# Altium footprint library Telma_SimBox_T0_00.PcbLib: 26 footprints (part 2 of 2)
Each footprint in its own frame and in the unit in brackets; x right, y up, seen from the top. Pads: shape width x height; smd on the part's side, far side on the other; paste and mask are expansions set on the pad; w line width, h text height; cw(c..) or ccw(c..) is an arc to the next point about the centre after c.
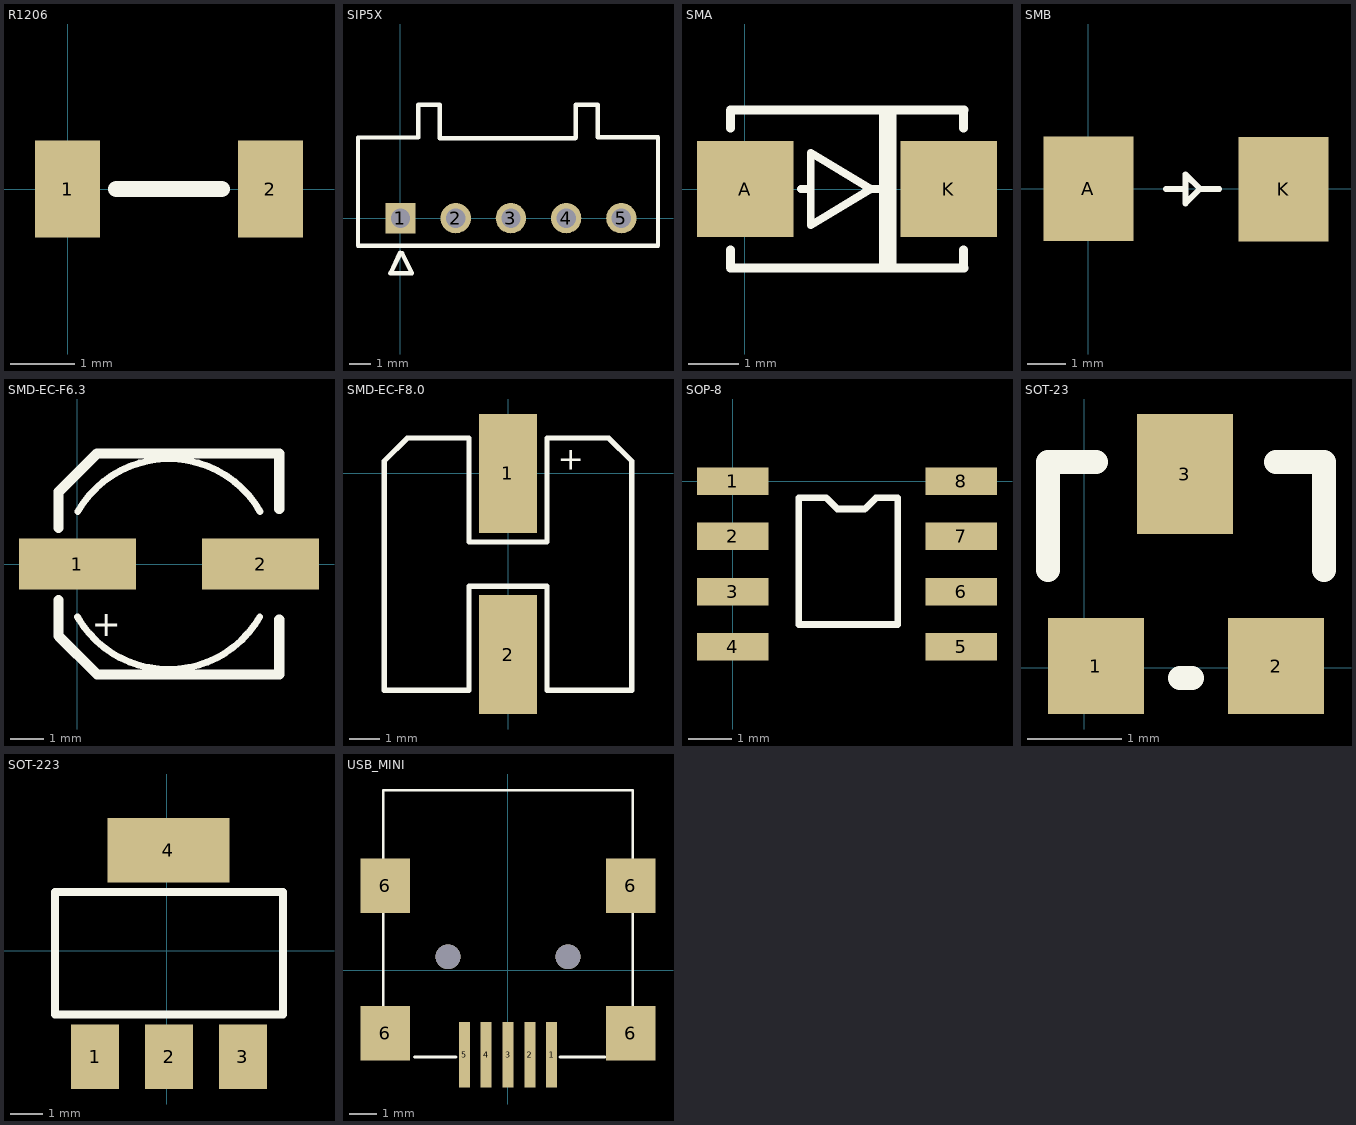
[diagram p1: the footprints below, top view; thin cyan lines are the x and y axes]

## R1206 [mil] "1/4W"
height 43.31
pads (2):
  rect 40x60 smd: 1(0,0) 2(125,0)
Top Overlay:
  lines w10: 30,0 95,0
3D body: height 23.62, standoff 0, extent 0,-31.5 125.98,31.5

## SIP5X [mil]
pads (5):
  rect 55x55 hole 35: 1(0,0)
  round 55 hole 35: 2(100,0.23) 3(200,0.23) 4(300,0.23) 5(400,0.23)
Top Overlay:
  lines w8: -0.42,-62.27 -18.33,-99.77 20.83,-99.77 2.92,-63.1 ; 466.25,-49.77 466.25,146.69 357.29,146.69 357.29,205.85 317.71,205.85 317.71,146.06 316.65,145 71.46,145 71.46,205.44 32.08,205.44 32.08,146.27 -76.88,146.27 -76.88,-49.56 466.25,-49.56

## SMA [mil]
height 759.84
pads (2):
  rect 75x75 smd: A(0.42,0) K(158.62,0)
Top Overlay:
  lines w6: 43.75,0 51.04,0 ; 108.54,0 97.92,0 ; 97.92,0 51.25,28.12 51.25,0 51.25,-28.12 97.92,0
  lines w7: -11.04,-61.22 -11.04,-47.26 ; -11.04,47.26 -11.04,61.22 ; -10.83,-61.25 170.42,-61.25 ; -10.83,61.25 170.42,61.25 ; 107.92,-60.83 107.92,58.75 ; 170.21,-61.22 170.21,-47.26 ; 170.21,47.26 170.21,61.22
  lines w8: 114.17,-59.38 114.17,58.75

## SMB [mil]
height 43.31
pads (2):
  rect 93x108 smd: A(0,0) K(201.31,-0.31)
Top Overlay:
  lines w6: 80,0 100,0 ; 135,0 115,0 ; 100,15 115,0 ; 100,15 115,0 ; 100,15 100,-15 115,0
3D body: height 89.57, standoff -1.18, extent -4.99,-77.17 207.61,64.56

## SMD-EC-F6.3 [mil]
height 55.12
pads (2):
  rect 137.8x60 smd: 1(0,0) 2(215.54,0)
Top Overlay:
  lines w8: -0.12,-62.07 ccw(c107.28,-0.06) 214.68,-62.07 ; 0.32,62.07 cw(c107.72,0.06) 215.12,62.07
  lines w12: -22.2,-42.25 -22.2,-84.72 23.1,-130.03 ; -22.2,42.69 -22.2,85.17 23.1,130.47 ; 23.2,-130.13 237.64,-130.13 237.64,-65.03 ; 23.31,130.27 237.64,130.27 237.64,65.17
  text "+" at 16.94,-85.18 h30

## SMD-EC-F8.0 [mil]
height 759.84
pads (2):
  rect 76x156 smd: 1(-0.17,0.1) 2(0.02,-237.72)
Top Overlay:
  lines w7: 50.42,-90 43.75,-90 -51.25,-90 -51.25,46.67 -132.08,46.67 -162.5,16.25 -162.5,-284.58 -132.08,-284.58 -51.25,-284.58 -51.25,-147.92 51.25,-147.92 51.25,-284.58 132.08,-284.58 162.5,-284.58 162.5,16.25 132.08,46.67 51.25,46.67 51.25,-90
  text "+" at 65,5 h30

## SOP-8 [mil]
height 43.31
pads (8):
  rect 65x25 smd: 1(0.07,0) 2(0,-50) 3(0,-100) 4(0,-150) 5(207.4,-150) 6(207.5,-100) 7(207.5,-50) 8(207.5,0)
Top Overlay:
  lines w6: 60,-130 60,-15 85,-15 95,-25 120,-25 130,-15 150,-15 150,-130 60,-130
3D body: height 62.99, standoff 0, extent -16.94,-171.82 220.93,25.82

## SOT-23 [mil]
height 43.31
pads (3):
  rect 40x40 smd: 1(4.88,0.63) 2(79.88,0.63)
  rect 40x50 smd: 3(41.88,80.63)
Top Overlay:
  lines w10: -15.12,40.63 -15.12,85.63 4.88,85.63 ; 39.88,-4.37 44.88,-4.37 ; 79.88,85.63 99.88,85.63 99.88,40.63
3D body: height 47.24, standoff 0, extent -14.87,-11.02 99.3,99.22

## SOT-223 [mil]
height 43.31
pads (4):
  rect 59x79 smd: 1(-88,-130) 2(2.55,-130) 3(93.1,-130)
  rect 150x79 smd: 4(1.88,123.54)
Top Overlay:
  lines w10: -137.45,-78 142.55,-78 142.55,72 -137.45,72 -137.45,-78
3D body: height 66.93, standoff 0, extent -126.41,-138.72 129.5,135.3

## USB_MINI [mm]
pads (9):
  rect 0.4x2.4 smd: 1(1.6,-3.1) 2(0.8,-3.1) 3(0,-3.1) 4(-0.8,-3.1) 5(-1.6,-3.1)
  rect 1.8x2 smd: 6(-4.5,-2.3) 6(-4.5,3.1) 6(4.5,-2.3) 6(4.5,3.1)
via 2.2,0.5 diameter 0.9 hole 0.9
via -2.2,0.5 diameter 0.9 hole 0.9
Top Overlay:
  lines w0.1: -4.572,-1.397 -4.572,2.159 ; -4.572,4.064 -4.572,6.604 4.572,6.604 4.572,4.064 ; -3.429,-3.175 -1.905,-3.175 ; 1.905,-3.175 3.556,-3.175 ; 4.572,-1.397 4.572,2.159
3D body: height 3.93, standoff -1, extent -4.82,-3.101 5.08,6.149